# Altium integrated library ST1L05CPU33R.IntLib: 1 symbol
Pins are listed as number, name and electrical type; pins without a type are passive.

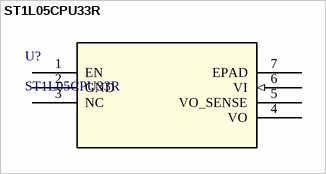
[diagram p0: symbol ST1L05CPU33R]

## ST1L05CPU33R
designator U?
Very low quiescent BiCMOS voltage regulator; Manufacturer_Name: STMicroelectronics; Copyright: Copyright (C) 2025 Ultra Librarian. All rights reserved.; Manufacturer_Part_Number: ST1L05CPU33R; RefDes: RefDes; Type: Type
footprint DFN6_3X3_STM
pins: 1 EN, 2 GND (power), 3 NC, 4 VO (power), 5 VO_SENSE, 6 VI (in), 7 EPAD